# EAGLE library part DP83848C (library mbed-ics)
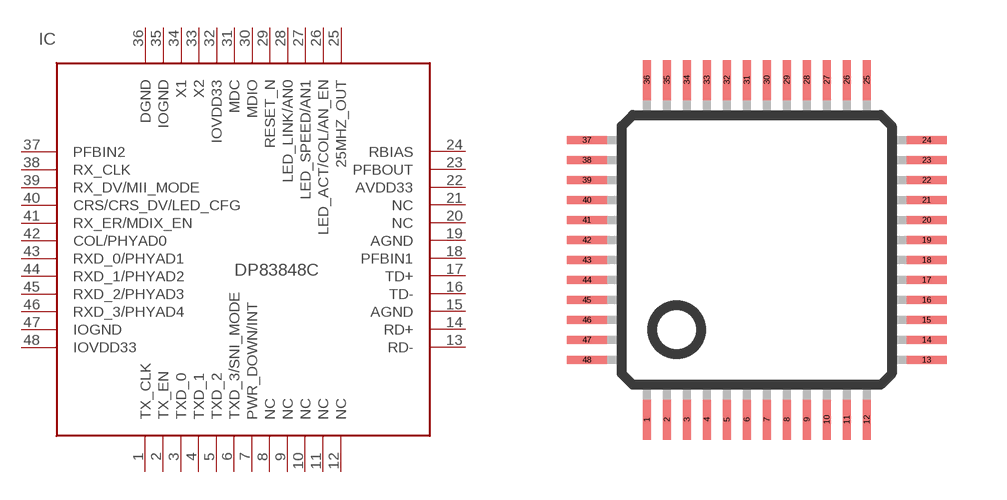
[diagram p0: symbol with the pads of LQFP-48; footprint LQFP-48]

Designator prefix IC

## DP83848CC  [LQFP-48]
1  TX_CLK
2  TX_EN
3  TXD_0
4  TXD_1
5  TXD_2
6  TXD_3/SNI_MODE
7  PWR_DOWN/INT
8  NC
9  NC
10  NC
11  NC
12  NC
13  RD-
14  RD+
15  AGND
16  TD-
17  TD+
18  PFBIN1
19  AGND
20  NC
21  NC
22  AVDD33
23  PFBOUT
24  RBIAS
25  25MHZ_OUT
26  LED_ACT/COL/AN_EN
27  LED_SPEED/AN1
28  LED_LINK/AN0
29  RESET_N
30  MDIO
31  MDC
32  IOVDD33
33  X2
34  X1
35  IOGND
36  DGND
37  PFBIN2
38  RX_CLK
39  RX_DV/MII_MODE
40  CRS/CRS_DV/LED_CFG
41  RX_ER/MDIX_EN
42  COL/PHYAD0
43  RXD_0/PHYAD1
44  RXD_1/PHYAD2
45  RXD_2/PHYAD3
46  RXD_3/PHYAD4
47  IOGND
48  IOVDD33

## Footprint LQFP-48 (pad centres in mm)
smd 0.2 x 1: 1 -2.75,-4.25; 2 -2.25,-4.25; 3 -1.75,-4.25; 4 -1.25,-4.25; 5 -0.75,-4.25; 6 -0.25,-4.25; 7 0.25,-4.25; 8 0.75,-4.25; 9 1.25,-4.25; 10 1.75,-4.25; 11 2.25,-4.25; 12 2.75,-4.25; 25 2.75,4.25; 26 2.25,4.25; 27 1.75,4.25; 28 1.25,4.25; 29 0.75,4.25; 30 0.25,4.25; 31 -0.25,4.25; 32 -0.75,4.25; 33 -1.25,4.25; 34 -1.75,4.25; 35 -2.25,4.25; 36 -2.75,4.25
smd 1 x 0.2: 13 4.25,-2.75; 14 4.25,-2.25; 15 4.25,-1.75; 16 4.25,-1.25; 17 4.25,-0.75; 18 4.25,-0.25; 19 4.25,0.25; 20 4.25,0.75; 21 4.25,1.25; 22 4.25,1.75; 23 4.25,2.25; 24 4.25,2.75; 37 -4.25,2.75; 38 -4.25,2.25; 39 -4.25,1.75; 40 -4.25,1.25; 41 -4.25,0.75; 42 -4.25,0.25; 43 -4.25,-0.25; 44 -4.25,-0.75; 45 -4.25,-1.25; 46 -4.25,-1.75; 47 -4.25,-2.25; 48 -4.25,-2.75